# Altium integrated library transistor-pnp.IntLib: 143 symbols
Pins are listed as number, name and electrical type; pins without a type are passive.

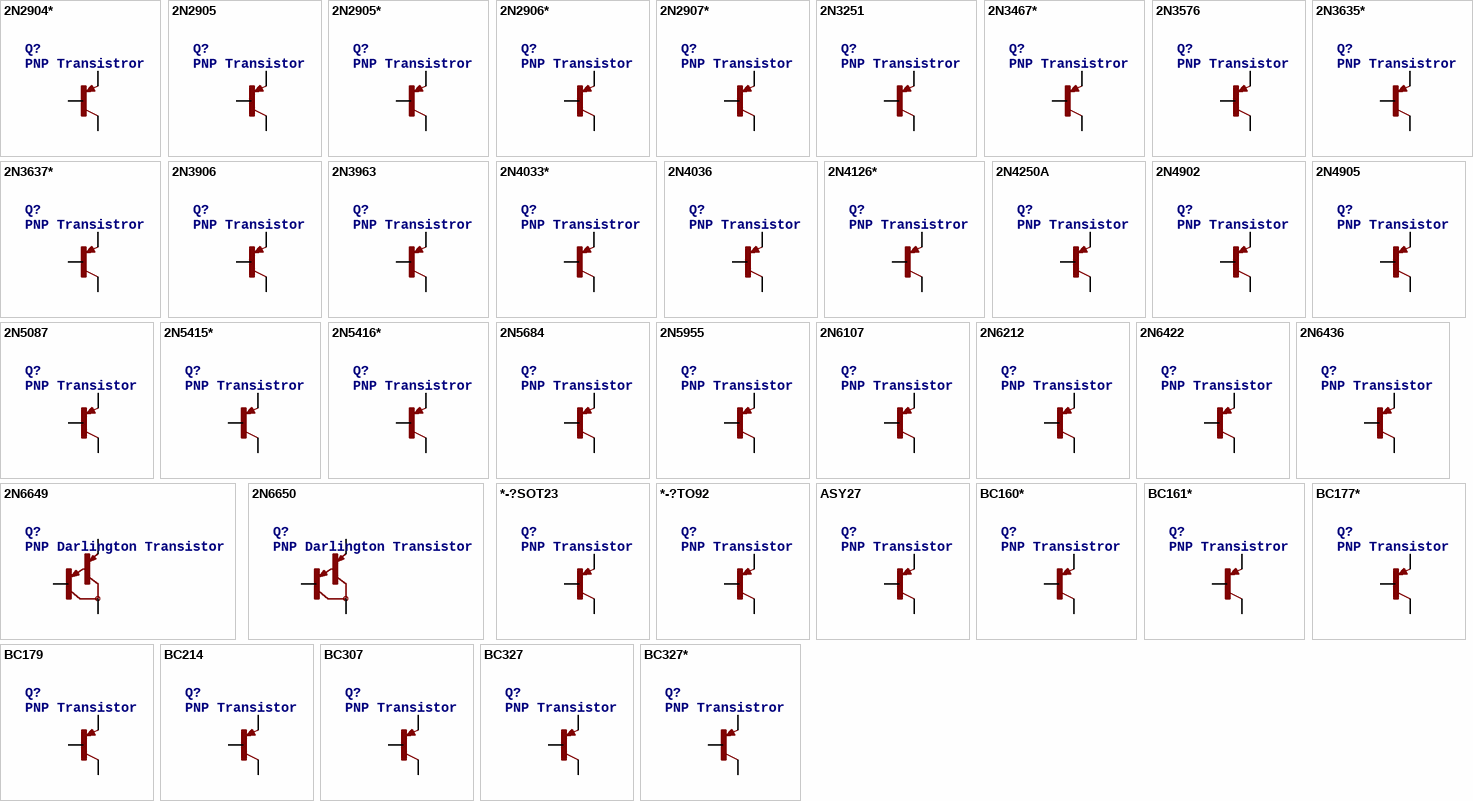
[diagram p0: symbols 2N2904* to BC327*]

## 2N2904*
designator Q?, comment PNP Transistror
footprint TO39
pins: 1 E, 2 B, 3 C

## 2N2905
designator Q?, comment PNP Transistor
footprint TO5
pins: 1 E, 2 B, 3 C

## 2N2905*
designator Q?, comment PNP Transistror
footprint TO39
pins: 1 E, 2 B, 3 C

## 2N2906*
designator Q?, comment PNP Transistor
footprint TO18
pins: 1 E, 2 B, 3 C

## 2N2907*
designator Q?, comment PNP Transistor
footprint TO18
pins: 1 E, 2 B, 3 C

## 2N3251
designator Q?, comment PNP Transistror
footprint TO18
pins: 1 E, 2 B, 3 C

## 2N3467*
designator Q?, comment PNP Transistror
footprint TO39
pins: 1 E, 2 B, 3 C

## 2N3576
designator Q?, comment PNP Transistor
footprint TO18
pins: 1 E, 2 B, 3 C

## 2N3635*
designator Q?, comment PNP Transistror
footprint TO39
pins: 1 E, 2 B, 3 C

## 2N3637*
designator Q?, comment PNP Transistror
footprint TO39
pins: 1 E, 2 B, 3 C

## 2N3906
designator Q?, comment PNP Transistor
footprint TO92
pins: 1 C, 2 B, 3 E

## 2N3963
designator Q?, comment PNP Transistror
footprint TO18
pins: 1 E, 2 B, 3 C

## 2N4033*
designator Q?, comment PNP Transistror
footprint TO39
pins: 1 E, 2 B, 3 C

## 2N4036
designator Q?, comment PNP Transistor
footprint TO5
pins: 1 E, 2 B, 3 C

## 2N4126*
designator Q?, comment PNP Transistror
footprint TO92-CBE
pins: B, C, E

## 2N4250A
designator Q?, comment PNP Transistor
footprint TO18
pins: 1 E, 2 B, 3 C

## 2N4902
designator Q?, comment PNP Transistor
footprint TO3
pins: B, C C/ C, E

## 2N4905
designator Q?, comment PNP Transistor
footprint TO3
pins: B, C C/ C, E

## 2N5087
designator Q?, comment PNP Transistor
footprint TO92
pins: 1 C, 2 B, 3 E

## 2N5415*
designator Q?, comment PNP Transistror
footprint TO39
pins: 1 E, 2 B, 3 C

## 2N5416*
designator Q?, comment PNP Transistror
footprint TO39
pins: 1 E, 2 B, 3 C

## 2N5684
designator Q?, comment PNP Transistor
footprint TO3
pins: B, C C/ C, E

## 2N5955
designator Q?, comment PNP Transistor
footprint TO66
pins: 1 E, 2 B, 3 TO66 C

## 2N6107
designator Q?, comment PNP Transistor
footprint TO220
pins: 1 B, 2 C, 3 E

## 2N6212
designator Q?, comment PNP Transistor
footprint TO66
pins: 1 E, 2 B, 3 TO66 C

## 2N6422
designator Q?, comment PNP Transistor
footprint TO66
pins: 1 E, 2 B, 3 TO66 C

## 2N6436
designator Q?, comment PNP Transistor
footprint TO3
pins: B, C C/ C, E

## 2N6649
designator Q?, comment PNP Darlington Transistor
footprint TO3
pins: B, C C/ C, E

## 2N6650
designator Q?, comment PNP Darlington Transistor
footprint TO3
pins: B, C C/ C, E

## *-?SOT23
designator Q?, comment PNP Transistor
footprint SOT23
pins: 1 B, 2 E, 3 C

## *-?TO92
designator Q?, comment PNP Transistor
footprint TO92-CBE
pins: B, C, E

## ASY27
designator Q?, comment PNP Transistor
footprint TO5
pins: 1 E, 2 B, 3 C

## BC160*
designator Q?, comment PNP Transistror
footprint TO39
pins: 1 E, 2 B, 3 C

## BC161*
designator Q?, comment PNP Transistror
footprint TO39
pins: 1 E, 2 B, 3 C

## BC177*
designator Q?, comment PNP Transistor
footprint TO18
pins: 1 E, 2 B, 3 C

## BC179
designator Q?, comment PNP Transistor
footprint TO18
pins: 1 E, 2 B, 3 C

## BC214
designator Q?, comment PNP Transistor
footprint TO92
pins: 1 E, 2 B, 3 C

## BC307
designator Q?, comment PNP Transistor
footprint TO92
pins: 1 E, 2 B, 3 C

## BC327
designator Q?, comment PNP Transistor
footprint TO92
pins: 1 E, 2 B, 3 C

## BC327*
designator Q?, comment PNP Transistror
footprint TO92-EBC
pins: B, C, E

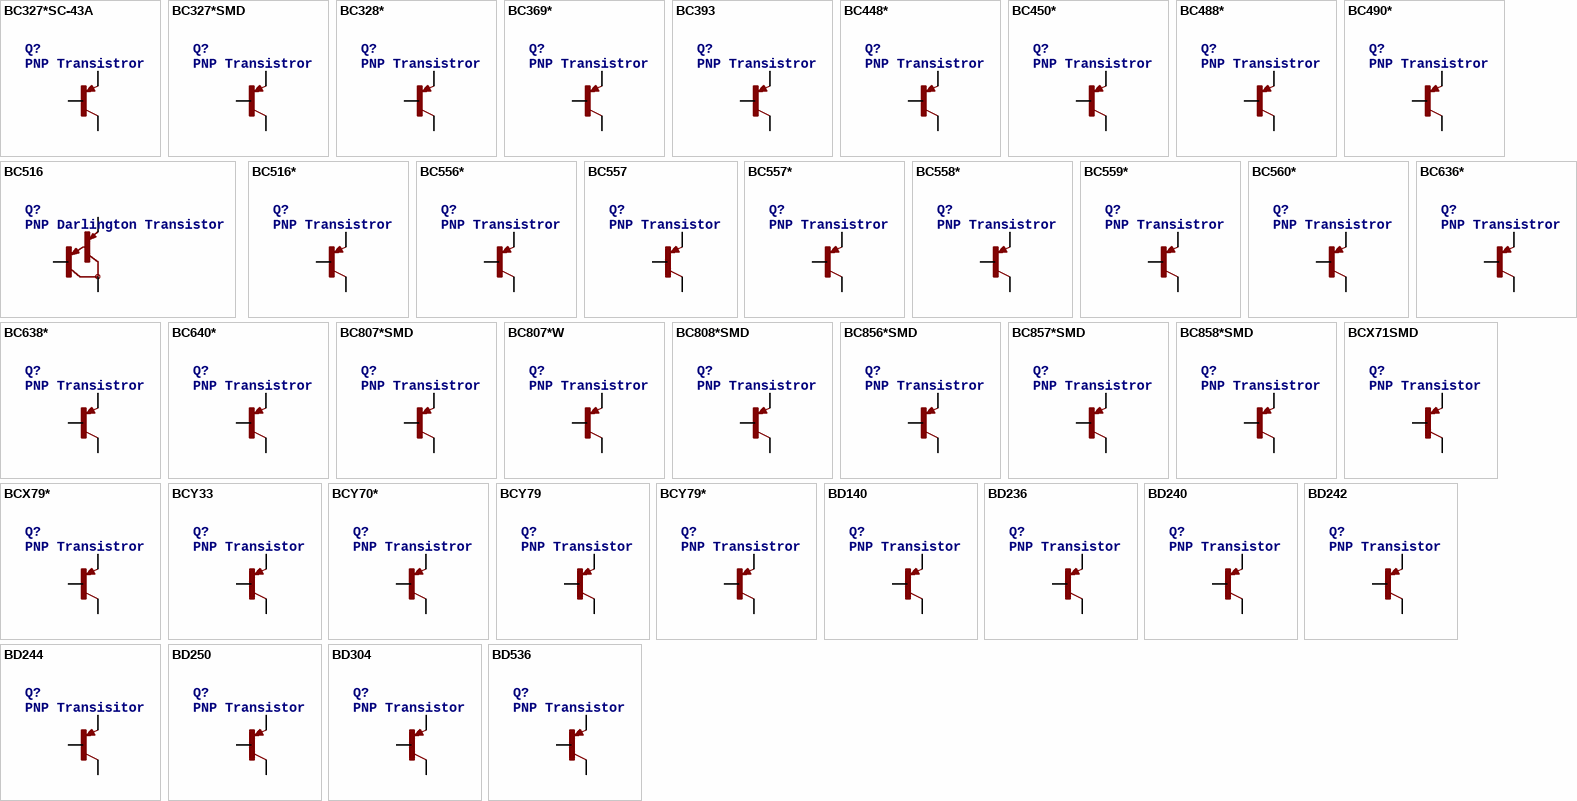
[diagram p1: symbols BC327*SC-43A to BD536]

## BC327*SC-43A
designator Q?, comment PNP Transistror
footprint SOT54
pins: 1 E, 2 B, 3 C

## BC327*SMD
designator Q?, comment PNP Transistror
footprint SOT23-BEC
pins: B, C, E

## BC328*
designator Q?, comment PNP Transistror
footprint TO92-EBC
pins: B, C, E

## BC369*
designator Q?, comment PNP Transistror
footprint TO92-BCE
pins: B, C, E

## BC393
designator Q?, comment PNP Transistror
footprint TO18
pins: 1 E, 2 B, 3 C

## BC448*
designator Q?, comment PNP Transistror
footprint TO92-EBC
pins: B, C, E

## BC450*
designator Q?, comment PNP Transistror
footprint TO92-EBC
pins: B, C, E

## BC488*
designator Q?, comment PNP Transistror
footprint TO92-EBC
pins: B, C, E

## BC490*
designator Q?, comment PNP Transistror
footprint TO92-EBC
pins: B, C, E

## BC516
designator Q?, comment PNP Darlington Transistor
footprint TO92
pins: 1 E, 2 B, 3 C

## BC516*
designator Q?, comment PNP Transistror
footprint TO92-EBC
pins: B, C, E

## BC556*
designator Q?, comment PNP Transistror
footprint TO92-EBC
pins: B, C, E

## BC557
designator Q?, comment PNP Transistor
footprint TO92
pins: 1 E, 2 B, 3 C

## BC557*
designator Q?, comment PNP Transistror
footprint TO92-EBC
pins: B, C, E

## BC558*
designator Q?, comment PNP Transistror
footprint TO92-EBC
pins: B, C, E

## BC559*
designator Q?, comment PNP Transistror
footprint TO92-EBC
pins: B, C, E

## BC560*
designator Q?, comment PNP Transistror
footprint TO92-EBC
pins: B, C, E

## BC636*
designator Q?, comment PNP Transistror
footprint TO92-BCE
pins: B, C, E

## BC638*
designator Q?, comment PNP Transistror
footprint TO92-BCE
pins: B, C, E

## BC640*
designator Q?, comment PNP Transistror
footprint TO92-BCE
pins: B, C, E

## BC807*SMD
designator Q?, comment PNP Transistror
footprint SOT23-BEC
pins: B, C, E

## BC807*W
designator Q?, comment PNP Transistror
footprint SOT323-BEC
pins: 1 B, 2 E, 3 C

## BC808*SMD
designator Q?, comment PNP Transistror
footprint SOT23-BEC
pins: B, C, E

## BC856*SMD
designator Q?, comment PNP Transistror
footprint SOT23-BEC
pins: B, C, E

## BC857*SMD
designator Q?, comment PNP Transistror
footprint SOT23-BEC
pins: B, C, E

## BC858*SMD
designator Q?, comment PNP Transistror
footprint SOT23-BEC
pins: B, C, E

## BCX71SMD
designator Q?, comment PNP Transistor
footprint SOT23
pins: 1 B, 2 E, 3 C

## BCX79*
designator Q?, comment PNP Transistror
footprint TO92-EBC
pins: B, C, E

## BCY33
designator Q?, comment PNP Transistor
footprint TO5
pins: 1 E, 2 B, 3 C

## BCY70*
designator Q?, comment PNP Transistror
footprint TO18
pins: 1 E, 2 B, 3 C

## BCY79
designator Q?, comment PNP Transistor
footprint TO18
pins: 1 E, 2 B, 3 C

## BCY79*
designator Q?, comment PNP Transistror
footprint TO18
pins: 1 E, 2 B, 3 C

## BD140
designator Q?, comment PNP Transistor
footprint TO126
pins: 1 E, 2 C, 3 B

## BD236
designator Q?, comment PNP Transistor
footprint TO126
pins: 1 E, 2 C, 3 B

## BD240
designator Q?, comment PNP Transistor
footprint TO220
pins: 1 B, 2 C, 3 E

## BD242
designator Q?, comment PNP Transistor
footprint TO220
pins: 1 B, 2 C, 3 E

## BD244
designator Q?, comment PNP Transisitor
footprint TO220
pins: 1 B, 2 C, 3 E

## BD250
designator Q?, comment PNP Transistor
footprint TOP3
pins: 1 B, 2 C, 3 E

## BD304
designator Q?, comment PNP Transistor
footprint TO220
pins: 1 B, 2 C, 3 E

## BD536
designator Q?, comment PNP Transistor
footprint TO220
pins: 1 B, 2 C, 3 E

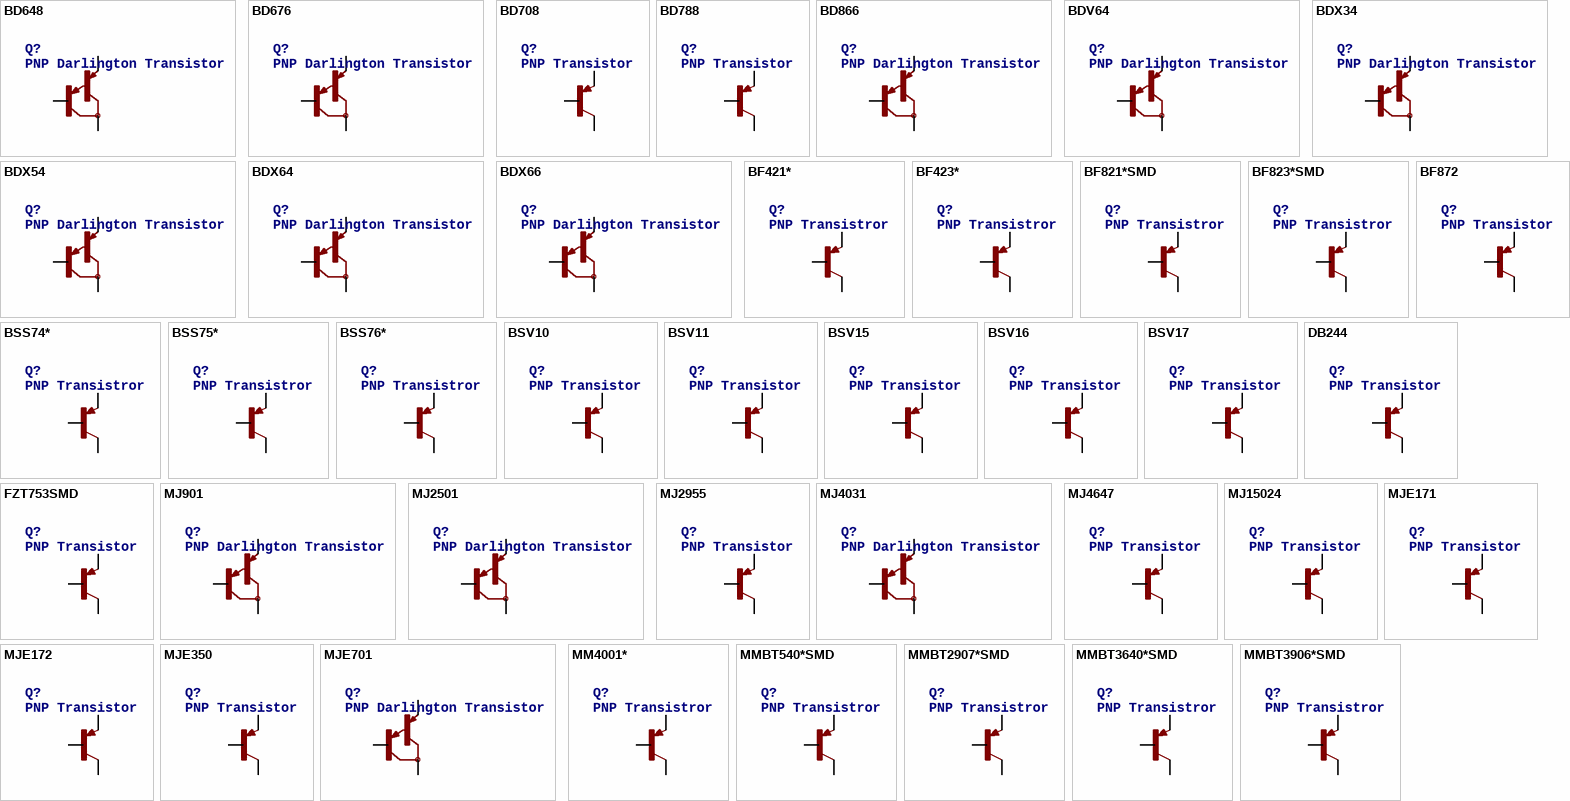
[diagram p2: symbols BD648 to MMBT3906*SMD]

## BD648
designator Q?, comment PNP Darlington Transistor
footprint TO220
pins: 1 B, 2 C, 3 E

## BD676
designator Q?, comment PNP Darlington Transistor
footprint TO126
pins: 1 E, 2 C, 3 B

## BD708
designator Q?, comment PNP Transistor
footprint TO220
pins: 1 B, 2 C, 3 E

## BD788
designator Q?, comment PNP Transistor
footprint TO126
pins: 1 E, 2 C, 3 B

## BD866
designator Q?, comment PNP Darlington Transistor
footprint TO202
pins: 1 E, 2 C, 3 B

## BDV64
designator Q?, comment PNP Darlington Transistor
footprint SOT93
pins: B, C, E

## BDX34
designator Q?, comment PNP Darlington Transistor
footprint TO220
pins: 1 B, 2 C, 3 E

## BDX54
designator Q?, comment PNP Darlington Transistor
footprint TO220
pins: 1 B, 2 C, 3 E

## BDX64
designator Q?, comment PNP Darlington Transistor
footprint TO3
pins: B, C C/ C, E

## BDX66
designator Q?, comment PNP Darlington Transistor
footprint TO3
pins: B, C C/ C, E

## BF421*
designator Q?, comment PNP Transistror
footprint TO92-BCE
pins: B, C, E

## BF423*
designator Q?, comment PNP Transistror
footprint TO92-BCE
pins: B, C, E

## BF821*SMD
designator Q?, comment PNP Transistror
footprint SOT23-BEC
pins: B, C, E

## BF823*SMD
designator Q?, comment PNP Transistror
footprint SOT23-BEC
pins: B, C, E

## BF872
designator Q?, comment PNP Transistor
footprint TO202
pins: 1 E, 2 C, 3 B

## BSS74*
designator Q?, comment PNP Transistror
footprint TO18
pins: 1 E, 2 B, 3 C

## BSS75*
designator Q?, comment PNP Transistror
footprint TO18
pins: 1 E, 2 B, 3 C

## BSS76*
designator Q?, comment PNP Transistror
footprint TO18
pins: 1 E, 2 B, 3 C

## BSV10
designator Q?, comment PNP Transistor
footprint TO39
pins: 1 E, 2 B, 3 C

## BSV11
designator Q?, comment PNP Transistor
footprint TO39
pins: 1 E, 2 B, 3 C

## BSV15
designator Q?, comment PNP Transistor
footprint TO39
pins: 1 E, 2 B, 3 C

## BSV16
designator Q?, comment PNP Transistor
footprint TO39
pins: 1 E, 2 B, 3 C

## BSV17
designator Q?, comment PNP Transistor
footprint TO39
pins: 1 E, 2 B, 3 C

## DB244
designator Q?, comment PNP Transistor
footprint TO220
pins: 1 B, 2 C, 3 E

## FZT753SMD
designator Q?, comment PNP Transistor
footprint SOT223
pins: 1 B, 2 4 C, 3 E

## MJ901
designator Q?, comment PNP Darlington Transistor
footprint TO3
pins: B, C C/ C, E

## MJ2501
designator Q?, comment PNP Darlington Transistor
footprint TO3
pins: B, C C/ C, E

## MJ2955
designator Q?, comment PNP Transistor
footprint TO3
pins: B, C C/ C, E

## MJ4031
designator Q?, comment PNP Darlington Transistor
footprint TO3
pins: B, C C/ C, E

## MJ4647
designator Q?, comment PNP Transistor
footprint TO39
pins: 1 E, 2 B, 3 C

## MJ15024
designator Q?, comment PNP Transistor
footprint TO3
pins: B, C C/ C, E

## MJE171
designator Q?, comment PNP Transistor
footprint TO225AA
pins: 1 E, 2 C, 3 B

## MJE172
designator Q?, comment PNP Transistor
footprint TO225AA
pins: 1 E, 2 C, 3 B

## MJE350
designator Q?, comment PNP Transistor
footprint TO126
pins: 1 E, 2 C, 3 B

## MJE701
designator Q?, comment PNP Darlington Transistor
footprint TO126
pins: 1 E, 2 C, 3 B

## MM4001*
designator Q?, comment PNP Transistror
footprint TO39
pins: 1 E, 2 B, 3 C

## MMBT540*SMD
designator Q?, comment PNP Transistror
footprint SOT23-BEC
pins: B, C, E

## MMBT2907*SMD
designator Q?, comment PNP Transistror
footprint SOT23-BEC
pins: B, C, E

## MMBT3640*SMD
designator Q?, comment PNP Transistror
footprint SOT23-BEC
pins: B, C, E

## MMBT3906*SMD
designator Q?, comment PNP Transistror
footprint SOT23-BEC
pins: B, C, E

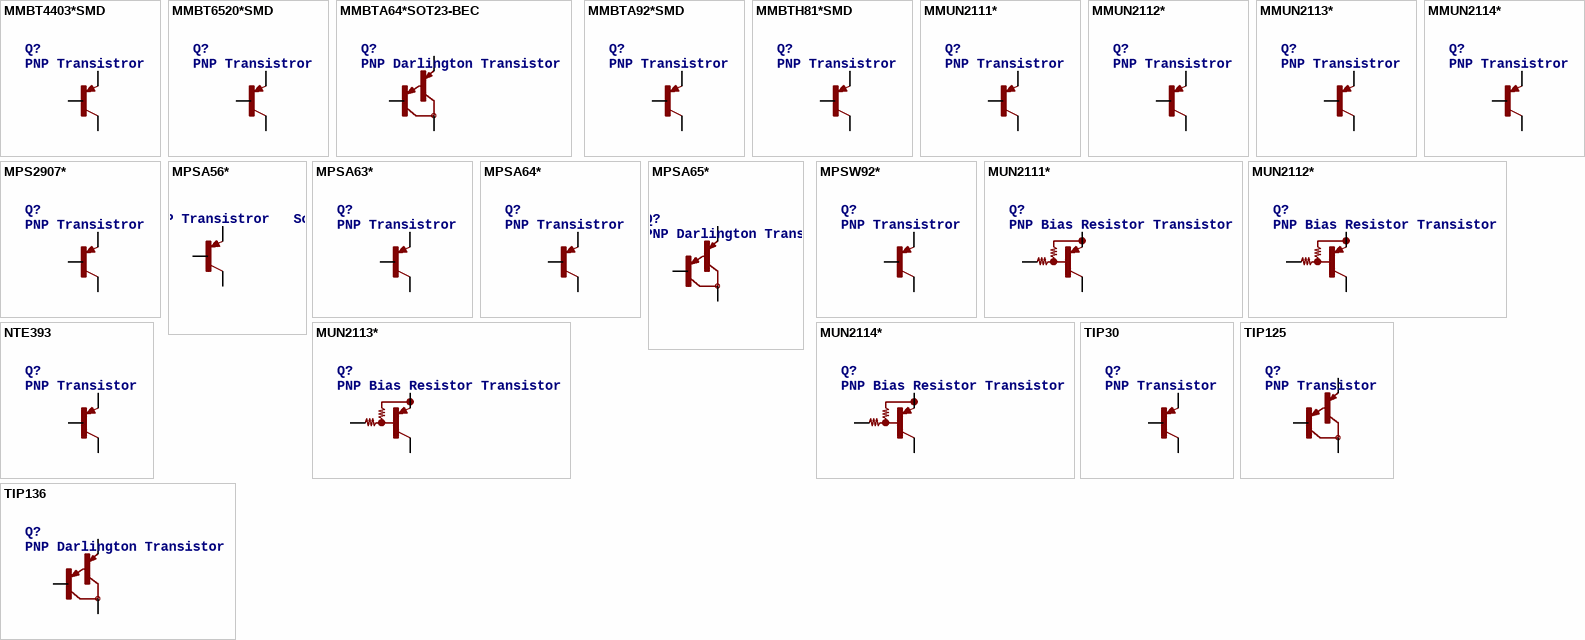
[diagram p3: symbols MMBT4403*SMD to TIP136]

## MMBT4403*SMD
designator Q?, comment PNP Transistror
footprint SOT23-BEC
pins: B, C, E

## MMBT6520*SMD
designator Q?, comment PNP Transistror
footprint SOT23-BEC
pins: B, C, E

## MMBTA64*SOT23-BEC
designator Q?, comment PNP Darlington Transistor
footprint SOT23-BEC
pins: B, C, E

## MMBTA92*SMD
designator Q?, comment PNP Transistror
footprint SOT23-BEC
pins: B, C, E

## MMBTH81*SMD
designator Q?, comment PNP Transistror
footprint SOT23-BEC
pins: B, C, E

## MMUN2111*
designator Q?, comment PNP Transistror
footprint SC59-BEC
pins: B, C, E

## MMUN2112*
designator Q?, comment PNP Transistror
footprint SC59-BEC
pins: B, C, E

## MMUN2113*
designator Q?, comment PNP Transistror
footprint SC59-BEC
pins: B, C, E

## MMUN2114*
designator Q?, comment PNP Transistror
footprint SC59-BEC
pins: B, C, E

## MPS2907*
designator Q?, comment PNP Transistror
footprint TO92-CBE
pins: B, C, E

## MPSA56*
designator Q?, comment PNP Transistror   Source: http://www.fairchildsemi.com/ds/MM/MMBTA56.pdf
footprint TO92-CBE
pins: B, C, E

## MPSA63*
designator Q?, comment PNP Transistror
footprint TO92-CBE
pins: B, C, E

## MPSA64*
designator Q?, comment PNP Transistror
footprint TO92-CBE
pins: B, C, E

## MPSA65*
designator Q?, comment PNP Darlington Transistor   Source: http://www.fairchildsemi.com/ds/MP/MPSA65.pdf
footprint TO92-CBE
pins: B, C, E

## MPSW92*
designator Q?, comment PNP Transistror
footprint TO92-CBE
pins: B, C, E

## MUN2111*
designator Q?, comment PNP Bias Resistor Transistor
footprint SC59-BEC
pins: B, C, E

## MUN2112*
designator Q?, comment PNP Bias Resistor Transistor
footprint SC59-BEC
pins: B, C, E

## MUN2113*
designator Q?, comment PNP Bias Resistor Transistor
footprint SC59-BEC
pins: B, C, E

## MUN2114*
designator Q?, comment PNP Bias Resistor Transistor
footprint SC59-BEC
pins: B, C, E

## NTE393
designator Q?, comment PNP Transistor
footprint TOP3
pins: 1 B, 2 C, 3 E

## TIP30
designator Q?, comment PNP Transistor
footprint TO220
pins: 1 B, 2 C, 3 E

## TIP125
designator Q?, comment PNP Transistor
footprint TO220
pins: 1 B, 2 C, 3 E

## TIP136
designator Q?, comment PNP Darlington Transistor
footprint TO220
pins: 1 B, 2 C, 3 E